# Altium schematic symbol library PS7241-2A-F3-A.SchLib: 1 symbol
Pins are listed as number, name and electrical type; pins without a type are passive.

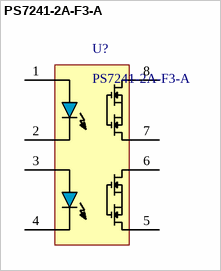
[diagram p0: symbol PS7241-2A-F3-A]

## PS7241-2A-F3-A
designator U?
pins: 1 1A, 2 1C, 3 2A, 4 2C, 5 *, 6 *, 7 *, 8 *